# EAGLE library part ARDUINO_UNO_PINS (library 6502_lib)
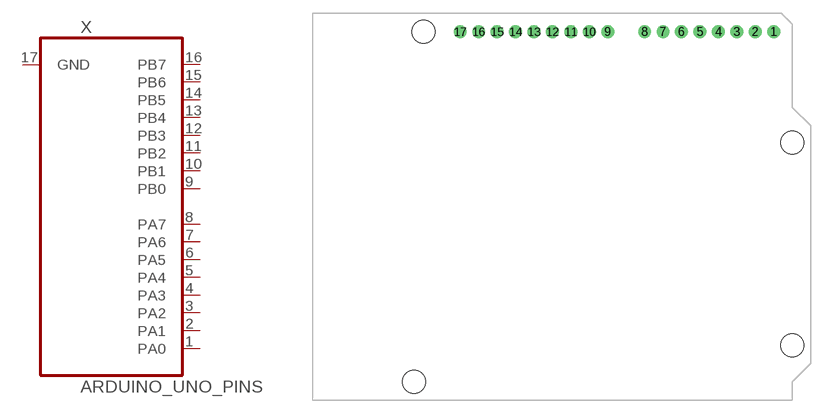
[diagram p15: symbol with the pads of ARDUINO_R3; footprint ARDUINO_R3]

Designator prefix X

## ARDUINO_UNO_PINS  [ARDUINO_R3]
1  PA0
2  PA1
3  PA2
4  PA3
5  PA4
6  PA5
7  PA6
8  PA7
9  PB0
10  PB1
11  PB2
12  PB3
13  PB4
14  PB5
15  PB6  in
16  PB7  out
17  GND

## Footprint ARDUINO_R3 (pad centres in mm)
Arduino Uno R3 Footprint Includes mounting holes, and holes for ICSP header Specifications: Pin count: 38 Area:2.7x2.1in Datasheet referenced for footprint: Example device(s): Arduino Uno R3
drill 1.016 pad 1.778: 1 30.48,24.13; 2 27.94,24.13; 3 25.4,24.13; 4 22.86,24.13; 5 20.32,24.13; 6 17.78,24.13; 7 15.24,24.13; 8 12.7,24.13; 9 7.62,24.13; 10 5.08,24.13; 11 2.54,24.13; 12 0,24.13; 13 -2.54,24.13; 14 -5.08,24.13; 15 -7.62,24.13; 16 -10.16,24.13; 17 -12.7,24.13
hole 3.175 at -17.78,24.13
hole 3.175 at 33.02,8.89
hole 3.175 at 33.02,-19.05
hole 3.175 at -19.05,-24.13